# Altium integrated library MAX9814ETD_T.IntLib: 1 symbol
Pins are listed as number, name and electrical type; pins without a type are passive.

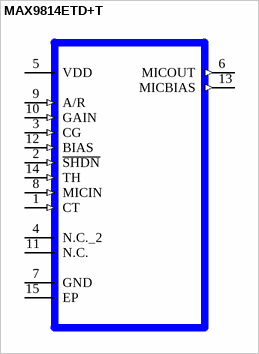
[diagram p0: symbol MAX9814ETD+T]

## MAX9814ETD+T
designator U?  (value not drawn)
Value: *
footprint DFN300X300X80-15N
pins: 1 CT (in), 2 ~{SHDN} (in), 3 CG (in), 4 N.C._2, 5 VDD (power), 6 MICOUT (out), 7 GND, 8 MICIN (in), 9 A/R (in), 10 GAIN (in), 11 N.C., 12 BIAS (in), 13 MICBIAS (out), 14 TH (in), 15 EP